# Altium footprint library Telemetry.PcbLib: 1 footprints
Each footprint in its own frame and in the unit in brackets; x right, y up, seen from the top. Pads: shape width x height; smd on the part's side, far side on the other; paste and mask are expansions set on the pad; w line width, h text height; cw(c..) or ccw(c..) is an arc to the next point about the centre after c.
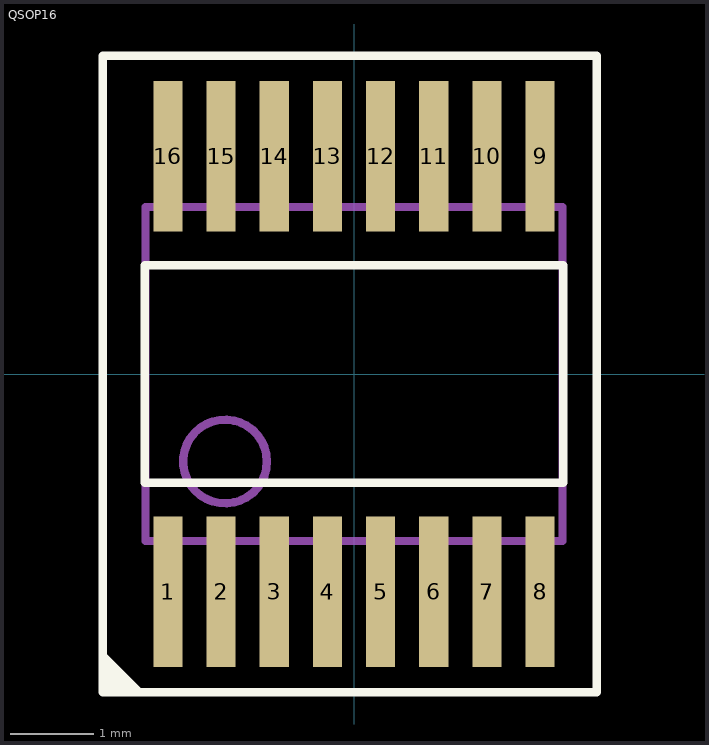
[diagram p0: the footprint, top view; thin cyan lines are the x and y axes]

## QSOP16 [mm] "SOP, 16-Leads, Body 5.0x4.0mm (max), Pitch 0.63mm, IPC Medium Density"
height 1.75
pads (16):
  rect 0.35x1.8 smd: 1(-2.222,-2.6) 2(-1.587,-2.6) 3(-0.953,-2.6) 4(-0.318,-2.6) 5(0.318,-2.6) 6(0.953,-2.6) 7(1.587,-2.6) 8(2.222,-2.6) 9(2.222,2.6) 10(1.587,2.6) 11(0.953,2.6) 12(0.318,2.6) 13(-0.318,2.6) 14(-0.953,2.6) 15(-1.587,2.6) 16(-2.222,2.6)
Top Overlay:
  region: -3,-3.3 -2.5,-3.8 -3,-3.8
  lines w0.1: -3,-3.8 2.9,-3.8 2.9,3.8 -3,3.8 -3,-3.8 ; -2.5,-1.3 2.5,-1.3 2.5,1.3 -2.5,1.3 -2.5,-1.3
Mechanical 13:
  circle w0.1: c-1.54,-1.045 r0.5
  lines w0.1: -2.49,-1.995 2.49,-1.995 2.49,1.995 -2.49,1.995 -2.49,-1.995
3D body: height 1.75, standoff 0.25, extent -2.49,-1.995 2.49,1.995